# EAGLE library part HMC5883LSMD (library Cape)
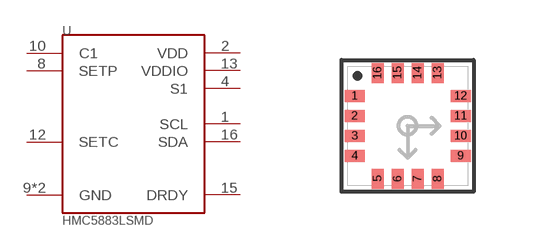
[diagram p4: symbol with the pads of HMC5883LSMD; footprint HMC5883LSMD]

Designator prefix U

## HMC5883LSMD  [HMC5883LSMD]
1  SCL  out
2  VDD  pwr
4  S1
8  SETP
9  GND
10  C1
11  GND
12  SETC
13  VDDIO  pwr
15  DRDY
16  SDA  out

## Footprint HMC5883LSMD (pad centres in mm)
smd 0.5 x 0.3: 1 -1.325,0.75; 2 -1.325,0.25; 3 -1.325,-0.25; 4 -1.325,-0.75; 9 1.325,-0.75; 10 1.325,-0.25; 11 1.325,0.25; 12 1.325,0.75
smd 0.3 x 0.5: 5 -0.75,-1.325; 6 -0.25,-1.325; 7 0.25,-1.325; 8 0.75,-1.325; 13 0.75,1.325; 14 0.25,1.325; 15 -0.25,1.325; 16 -0.75,1.325